# EAGLE library part TFT18 (library OMAT_IC)
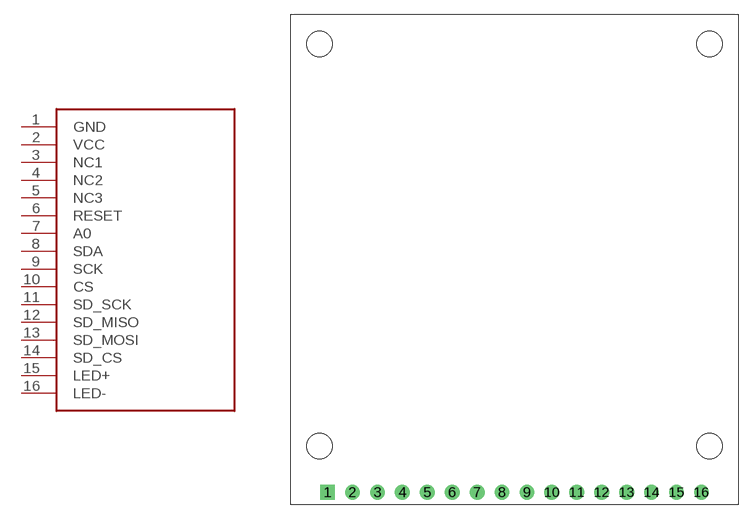
[diagram p1: symbol with the pads of TFT18; footprint TFT18]

Designator prefix -

## TFT18  [TFT18]
1  GND
2  VCC
3  NC1
4  NC2
5  NC3
6  RESET
7  A0
8  SDA
9  SCK
10  CS
11  SD_SCK
12  SD_MISO
13  SD_MOSI
14  SD_CS
15  LED+
16  LED-

## Footprint TFT18 (pad centres in mm)
drill 1 square: 1 -10.16,-5.08
drill 1: 2 -7.62,-5.08; 3 -5.08,-5.08; 4 -2.54,-5.08; 5 0,-5.08; 6 2.54,-5.08; 7 5.08,-5.08; 8 7.62,-5.08; 9 10.16,-5.08; 10 12.7,-5.08; 11 15.24,-5.08; 12 17.78,-5.08; 13 20.32,-5.08; 14 22.86,-5.08; 15 25.4,-5.08; 16 27.94,-5.08
hole 2.6 at -10.97,-0.35
hole 2.6 at 28.75,-0.35
hole 2.6 at -10.97,40.65
hole 2.6 at 28.75,40.65